# Altium footprint library JST BM02B-PASS-TF.PCBLIB: 1 footprints
Each footprint in its own frame and in the unit in brackets; x right, y up, seen from the top. Pads: shape width x height; smd on the part's side, far side on the other; paste and mask are expansions set on the pad; w line width, h text height; cw(c..) or ccw(c..) is an arc to the next point about the centre after c.
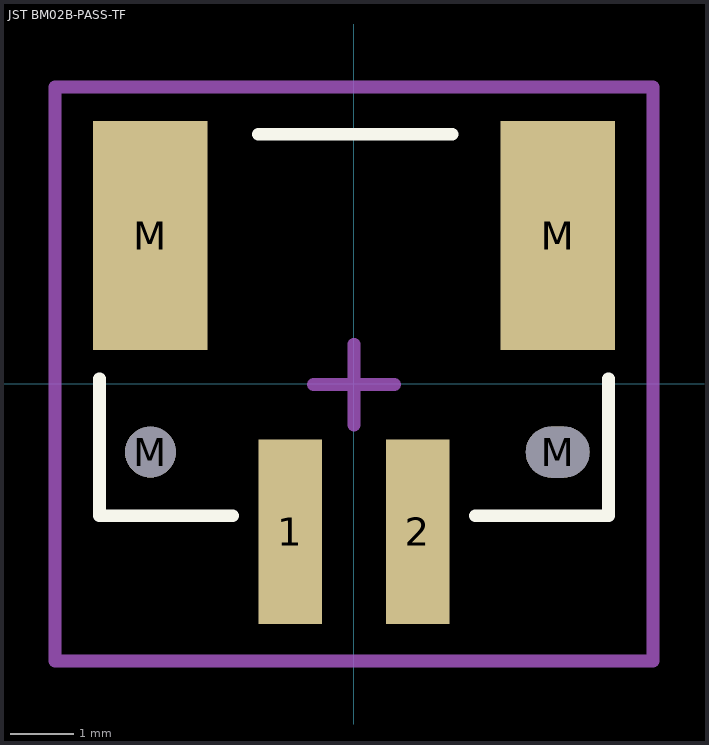
[diagram p0: the footprint, top view; thin cyan lines are the x and y axes]

## JST BM02B-PASS-TF [mm] "JST PA Series 2mm pitch, top entry connector"
height 11.1
pads (6):
  rect 1x2.9 smd: 1(-1,-2.325) 2(1,-2.325)
  round 0.8 hole 0.8 unplated mask+0.102: M(-3.2,-1.075)
  rect 1.8x3.6 smd: M(-3.2,2.325) M(3.2,2.325)
  oval 1x0.8 hole 0.8 slot 1 at 0 deg unplated mask+0.102: M(3.2,-1.075)
Top Overlay:
  lines w0.2: -4,0.075 -4,-2.075 -1.905,-2.075 ; -1.504,3.92 1.544,3.92 ; 1.905,-2.075 4,-2.075 4,0.075
Mechanical 15:
  lines w0.2: -0.635,-0.015 0.635,-0.015 ; 0,-0.65 0,0.62 ; -4.699,-4.357 4.699,-4.357 4.699,4.66 -4.699,4.66 -4.699,-4.357
3D body "JST BM02B-PASS-TF.STEP": height 9, standoff 0, extent -4,-3.225 4,3.875